# Altium footprint library JS-1150.PcbLib: 1 footprints
Each footprint in its own frame and in the unit in brackets; x right, y up, seen from the top. Pads: shape width x height; smd on the part's side, far side on the other; paste and mask are expansions set on the pad; w line width, h text height; cw(c..) or ccw(c..) is an arc to the next point about the centre after c.
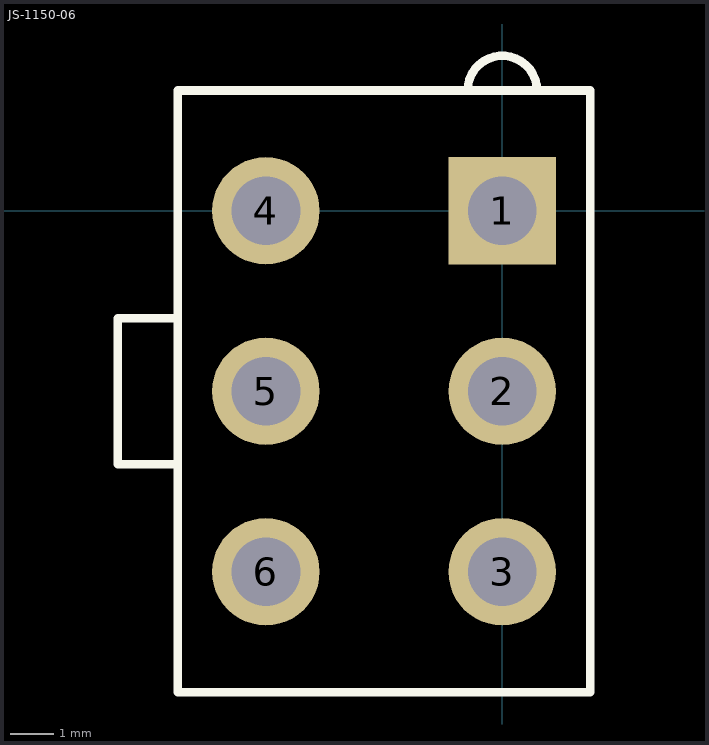
[diagram p0: the footprint, top view; thin cyan lines are the x and y axes]

## JS-1150-06 [mm]
pads (6):
  rect 2.5x2.5 hole 1.6: 1(0,0)
  round 2.5 hole 1.6: 2(0,-4.2) 3(0,-8.4) 4(-5.5,0) 5(-5.5,-4.2) 6(-5.5,-8.4)
Top Overlay:
  lines w0.2: -7.55,-5.9 -8.95,-5.9 -8.95,-2.5 -7.55,-2.5 ; -0.807,2.8 cw(c0,2.8) 0.807,2.8 ; -7.55,-11.2 2.05,-11.2 2.05,2.8 -7.55,2.8 -7.55,-11.2